# EAGLE library part GAMEBOYZEROHANDHELDDISPLAYS-3.2 (library GameboyZeroHandheldDisplays)
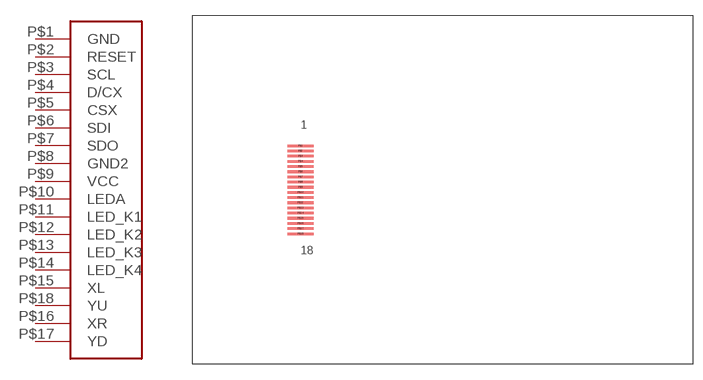
[diagram p3: symbol with the pads of GAMEBOYZEROHANDHELDDISPLAYS-3.2; footprint GAMEBOYZEROHANDHELDDISPLAYS-3.2]

Designator prefix -

## GAMEBOYZEROHANDHELDDISPLAYS-3.2  [GAMEBOYZEROHANDHELDDISPLAYS-3.2]
P$1  GND
P$2  RESET
P$3  SCL
P$4  D/CX
P$5  CSX
P$6  SDI
P$7  SDO
P$8  GND2
P$9  VCC
P$10  LEDA
P$11  LED_K1
P$12  LED_K2
P$13  LED_K3
P$14  LED_K4
P$15  XL
P$16  XR
P$17  YD
P$18  YU

## Footprint GAMEBOYZEROHANDHELDDISPLAYS-3.2 (pad centres in mm)
Gameboy Zero Handheld Displays - 2.8 Inch connector for ili9341 screens with SPI interface
smd 4 x 0.4: P$1 -22,6.8; P$2 -22,6; P$3 -22,5.2; P$4 -22,4.4; P$5 -22,3.6; P$6 -22,2.8; P$7 -22,2; P$8 -22,1.2; P$9 -22,0.4; P$10 -22,-0.4; P$11 -22,-1.2; P$12 -22,-2; P$13 -22,-2.8; P$14 -22,-3.6; P$15 -22,-4.4; P$16 -22,-5.2; P$17 -22,-6; P$18 -22,-6.8